# Altium footprint library CH340G_VCC.PcbLib: 12 footprints
Each footprint in its own frame and in the unit in brackets; x right, y up, seen from the top. Pads: shape width x height; smd on the part's side, far side on the other; paste and mask are expansions set on the pad; w line width, h text height; cw(c..) or ccw(c..) is an arc to the next point about the centre after c.
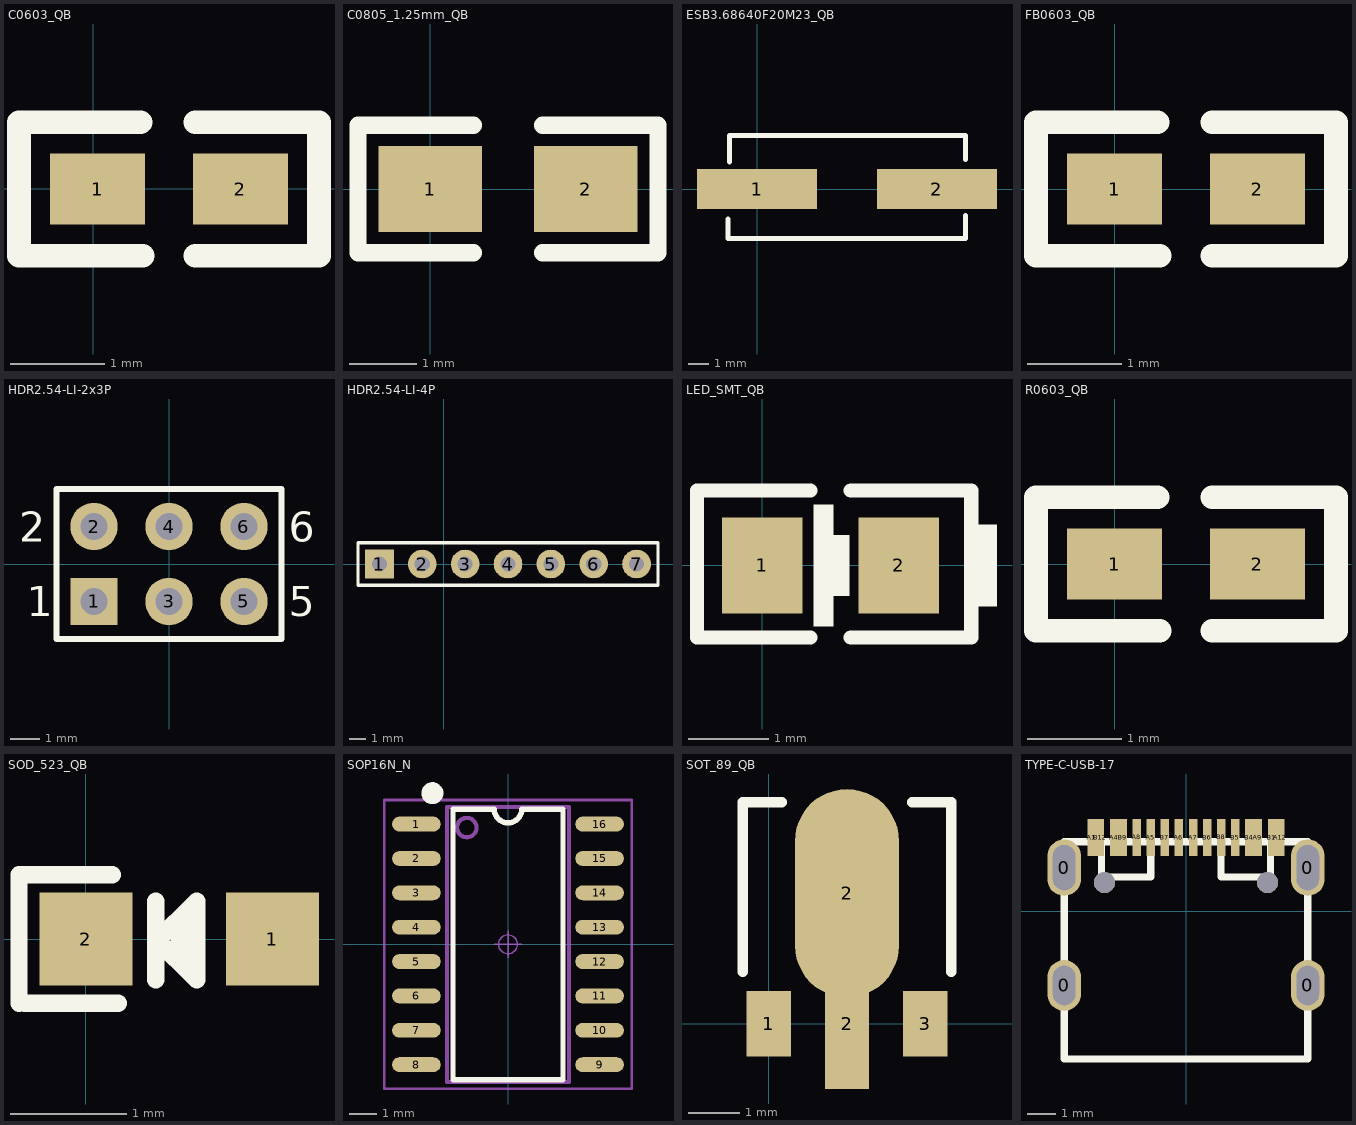
[diagram p0: the footprints below, top view; thin cyan lines are the x and y axes]

## C0603_QB [mil]
pads (2):
  rect 40x30 smd: 1(1.9,-0.1) 2(61.9,-0.1)
Top Overlay:
  lines w10: 19.9,27.9 -31.1,27.9 -31.1,-28.1 20.9,-28.1 ; 42.9,-28.1 94.9,-28.1 94.9,27.9 42.9,27.9
3D body: height 35.04, standoff 0, extent 0,-16.7 63.8,16.7

## C0805_1.25mm_QB [mil]
height 49.21
pads (2):
  rect 60x50 smd: 1(0,0) 2(90,0)
Top Overlay:
  lines w10: 25,-37 -42,-37 -42,37 25,37 ; 65,-37 132,-37 132,37 65,37
3D body: height 49.21, standoff 0, extent 6.24,-25.03 16.08,24.18
3D body: height 49.21, standoff 0, extent 75.14,-25.03 84.98,24.18
3D body: height 49.21, standoff 0, extent 16.08,-25.03 75.14,24.18

## ESB3.68640F20M23_QB [mm]
pads (2):
  rect 6x2 smd: 1(0,0) 2(9,0)
Top Overlay:
  lines w0.254: -1.45,-1.5 -1.45,-2.475 10.425,-2.475 10.425,-1.325 ; -1.375,1.35 -1.375,2.675 10.425,2.675 10.425,1.475
3D body: height 3, standoff 0.1, extent 2.5,-1.65 6.5,1.85
3D body: height 3, standoff 0.1, extent 4.764,-1.646 8.25,1.847
3D body: height 3, standoff 0.1, extent 0.764,-1.646 4.25,1.847
3D body: height 1, standoff 0.1, extent 1.231,-1.9 7.769,2.1
3D body: height 1, standoff 0.1, extent 5.781,-1.894 9.765,2.098
3D body: height 1, standoff 0.1, extent -0.723,-1.896 3.261,2.096
3D body: height 0.5, standoff 0, extent -1.2,-2.25 10.2,2.45

## FB0603_QB [mil]
pads (2):
  rect 40x30 smd: 1(0,0) 2(60,0)
Top Overlay:
  lines w10: 18,28 -33,28 -33,-28 19,-28 ; 41,-28 93,-28 93,28 41,28
3D body: height 35.04, standoff 0, extent -0.4,-16.7 63.4,16.7

## HDR2.54-LI-2x3P [mm] "双排排针，3x2脚"
pads (6):
  rect 1.6x1.6 hole 0.9: 1(-2.54,-1.27)
  round 1.6 hole 0.9: 2(-2.54,1.27) 3(0,-1.27) 4(0,1.27) 5(2.54,-1.27) 6(2.54,1.27)
Top Overlay:
  lines w0.2: -1.058,-2.54 3.81,-2.54 ; 3.81,-2.54 3.81,2.54 -3.81,2.54 -3.81,-2.54 3.81,-2.54
  text "6" at 4.064,0.762 h1.02
  text "5" at 4.064,-1.778 h1.02
  text "2" at -5.08,0.762 h1.02
  text "1" at -4.826,-1.778 h1.02
3D body "HDR2.54-1x2P.STEP": height 8.5, standoff -3, extent 1.27,-2.54 3.81,2.54
3D body "HDR2.54-1x2P.STEP": height 8.5, standoff -3, extent -3.81,-2.54 -1.27,2.54
3D body "HDR2.54-1x2P.STEP": height 8.5, standoff -3, extent -1.27,-2.54 1.27,2.54

## HDR2.54-LI-4P [mm] "排针，4脚"
pads (7):
  rect 1.7x1.7 hole 0.9: 1(-3.81,0)
  round 1.7 hole 0.9: 2(-1.27,0) 3(1.27,0) 4(3.81,0) 5(6.35,0) 6(8.89,0) 7(11.43,0)
Top Overlay:
  lines w0.2: -5.08,-1.27 12.7,-1.27 12.7,1.27 -5.08,1.27 -5.08,-1.27
3D body "HDR2.54-1P.STEP": height 8.5, standoff -3, extent 2.54,-1.27 5.08,1.27
3D body "HDR2.54-1P.STEP": height 8.5, standoff -3, extent 0,-1.27 2.54,1.27
3D body "HDR2.54-1P.STEP": height 8.5, standoff -3, extent -2.54,-1.27 0,1.27
3D body "HDR2.54-1P.STEP": height 8.5, standoff -3, extent -5.08,-1.27 -2.54,1.27
3D body "HDR2.54-1P.STEP": height 8.5, standoff -3, extent 5.08,-1.27 7.62,1.27
3D body "HDR2.54-1P.STEP": height 8.5, standoff -3, extent 7.62,-1.27 10.16,1.27
3D body "HDR2.54-1P.STEP": height 8.5, standoff -3, extent 10.16,-1.27 12.7,1.27

## LED_SMT_QB [mm]
pads (2):
  rect 1x1.2 smd: 1(0,0) 2(1.7,0)
Top Overlay:
  rectangle: 0.762,-0.381 1.083,0.381
  rectangle: 0.635,-0.762 0.889,0.762
  rectangle: 2.6,-0.508 2.921,0.508
  lines w0.152: -0.813,0.831 -0.813,0.933
  lines w0.178: 0.6,-0.896 -0.813,-0.896 -0.813,0.933 0.6,0.933 ; 1.1,-0.896 2.6,-0.896 2.6,0.933 1.1,0.933
3D body: height 0.6, standoff 0, extent 0,-0.508 1.778,0.508

## R0603_QB [mil]
pads (2):
  rect 40x30 smd: 1(0,0) 2(60,0)
Top Overlay:
  lines w10: 18,28 -33,28 -33,-28 19,-28 ; 41,-28 93,-28 93,28 41,28
3D body: height 35.04, standoff 0, extent -0.4,-16.7 63.4,16.7

## SOD_523_QB [mm]
pads (2):
  rect 0.8x0.8 smd: 1(1.6,0) 2(0,0)
Top Overlay:
  lines w0.15: -0.575,-0.55 -0.575,0.55 0.225,0.55 ; -0.525,-0.55 0.275,-0.55 ; 0.6,-0.35 0.6,0.325 ; 0.6,-0.025 0.95,0.325 0.95,-0.35 ; 0.6,0 0.95,-0.35 ; 0.8,0.15 0.8,-0.2 0.95,-0.35
3D body: height 0.2, standoff 0, extent 1.398,-0.229 1.626,0.229
3D body: height 0.2, standoff 0, extent -0.126,-0.229 0.102,0.229
3D body: height 0.65, standoff 0, extent 0.102,-0.432 1.398,0.432

## SOP16N_N [mm] "10.3*7*1.8mm（长宽高）"
height 1.75
pads (16):
  oval 1.8x0.55 smd: 1(-3.385,4.445) 2(-3.385,3.175) 3(-3.385,1.905) 4(-3.385,0.635) 5(-3.385,-0.635) 6(-3.385,-1.905) 7(-3.385,-3.175) 8(-3.385,-4.445) 9(3.385,-4.445) 10(3.385,-3.175) 11(3.385,-1.905) 12(3.385,-0.635) 13(3.385,0.635) 14(3.385,1.905) 15(3.385,3.175) 16(3.385,4.445)
Top Overlay:
  circle w0.5: c-2.794,5.588 r0.155
  lines w0.2: -2.032,5 -2.032,-5 2.032,-5 2.032,5
  lines w0.203: -2.032,5 -0.508,5 ccw(c0,5) 0,4.492 ccw(c0,5) 0.508,5 2.032,5
Mechanical 13:
  circle w0.15: c-1.524,4.318 r0.359
  lines w0.15: -2.25,-5.08 2.25,-5.08 2.25,5.08 -2.25,5.08 -2.25,-5.08
Mechanical 15:
  circle w0.05: c0,0 r0.35
  lines w0.05: -0.5,0 0.5,0 ; 0,-0.5 0,0.5
  lines w0.1: -4.572,-5.334 4.572,-5.334 4.572,5.334 -4.572,5.334 -4.572,-5.334
3D body "SOP16N.STEP": height 1.9, standoff 0, extent -3.503,-5.25 3.503,5.25

## SOT_89_QB [mil]
pads (4):
  rect 34x50 smd: 1(0,0) 3(120,0)
  rect 34x100 smd: 2(60,0)
  oval 80x160 smd: 2(60,100)
Top Overlay:
  lines w8: -20,40 -20,170 10,170 ; 110,170 140,170 140,40
3D body: height 23.62, standoff 0, extent 15,130 105,175
3D body: height 16.93, standoff 0, extent -13.78,-11.81 9.84,39.37
3D body: height 16.93, standoff 0, extent 48.23,-11.81 71.85,39.37
3D body: height 16.93, standoff 0, extent 109.25,-11.81 132.87,39.37
3D body: height 62.99, standoff 0, extent -28.54,39.37 148.62,132.87

## TYPE-C-USB-17 [mm]
height 12.75
pads (22):
  oval 1.2x1.8 hole 0.8 slot 1.4 at 90 deg: 0(-4.32,-2.624) 0(4.32,-2.624)
  oval 1.2x2 hole 0.8 slot 1.6 at 90 deg: 0(-4.32,1.556) 0(4.32,1.556)
  rect 0.3x1.3 smd: A1(-3.35,2.623) A4(-2.55,2.623) A5(-1.25,2.623) A6(-0.25,2.623) A7(0.25,2.623) A8(-1.75,2.624) A9(2.55,2.623) A12(3.35,2.623) B1(3.05,2.623) B4(2.25,2.623) B5(1.75,2.623) B6(0.75,2.623) B7(-0.75,2.623) B8(1.25,2.624) B9(-2.25,2.623) B12(-3.05,2.623)
  round 0.75 hole 0.75 unplated: ""(-2.89,1.026) ""(2.89,1.026)
Top Overlay:
  lines w0.254: -3,2.471 -3,1.221 -1.25,1.221 -1.25,2.471 ; 1.247,2.473 1.247,1.223 2.997,1.223 2.997,2.473 ; -4.32,-5.227 4.32,-5.227 4.32,2.471 -4.32,2.471 -4.32,-5.227